# EAGLE library part S25FL127S (library memory)
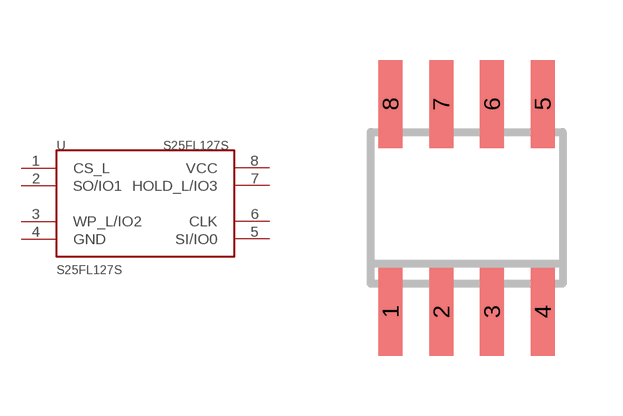
[diagram p0: symbol with the pads of SO8; footprint SO8]

Designator prefix U

## S25FL127S  [SO8]
1  CS_L
2  SO/IO1
3  WP_L/IO2
4  GND
5  SI/IO0
6  CLK
7  HOLD_L/IO3
8  VCC

## Footprint SO8 (pad centres in mm)
SMALL OUTLINE INTEGRATED CIRCUIT
smd 0.6 x 2.2: 1 -1.905,-2.6; 2 -0.635,-2.6; 3 0.635,-2.6; 4 1.905,-2.6; 5 1.905,2.6; 6 0.635,2.6; 7 -0.635,2.6; 8 -1.905,2.6